# EAGLE library part LMH7322SQ (library SamacSys_Parts)
High Speed Comparator Source: Datasheet
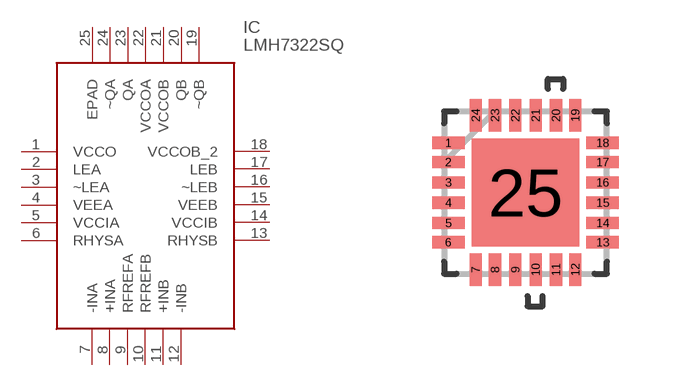
[diagram p3: symbol with the pads of QFN50P400X400X80-25N; footprint QFN50P400X400X80-25N]

Designator prefix IC

## LMH7322SQ (Arrow_Part_Number: LMH7322SQ; Description: High Speed Comparator; Height: mm; Manufacturer_Name: Texas Instruments; Manufacturer_Part_Number: LMH7322SQ)  [QFN50P400X400X80-25N]
1  VCCO
2  LEA
3  ~LEA
4  VEEA
5  VCCIA
6  RHYSA
7  -INA
8  +INA
9  RFREFA
10  RFREFB
11  +INB
12  -INB
13  RHYSB
14  VCCIB
15  VEEB
16  ~LEB
17  LEB
18  VCCOB_2
19  ~QB
20  QB
21  VCCOB
22  VCCOA
23  QA
24  ~QA
25  EPAD

## Footprint QFN50P400X400X80-25N (pad centres in mm)
QFN50P400X400X80-25N
smd 0.813 x 0.305: 1 -1.93,1.245; 2 -1.93,0.762; 3 -1.93,0.254; 4 -1.93,-0.254; 5 -1.93,-0.762; 6 -1.93,-1.245; 13 1.93,-1.245; 14 1.93,-0.762; 15 1.93,-0.254; 16 1.93,0.254; 17 1.93,0.762; 18 1.93,1.245
smd 0.305 x 0.813: 7 -1.245,-1.93; 8 -0.762,-1.93; 9 -0.254,-1.93; 10 0.254,-1.93; 11 0.762,-1.93; 12 1.245,-1.93; 19 1.245,1.93; 20 0.762,1.93; 21 0.254,1.93; 22 -0.254,1.93; 23 -0.762,1.93; 24 -1.245,1.93
smd 2.692 x 2.692: 25 0,0